# EAGLE library part ME4057 (library SW_BatteryChargers)
1.3A Lithium Ion, 9V Input Voltage Battery Linear Charger
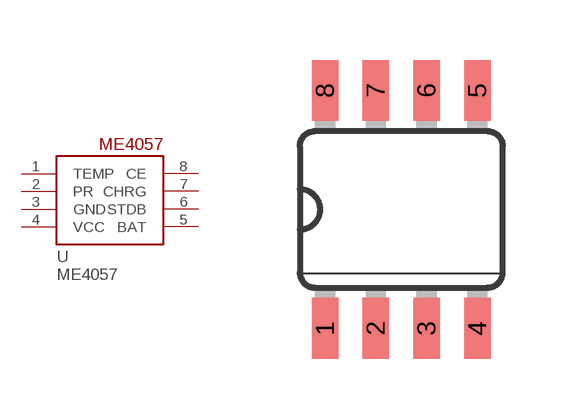
[diagram p3: symbol with the pads of SO08-SKINNYPADS; footprint SO08-SKINNYPADS]

Designator prefix U

## ME4057-SOP8 (CATEGORY: Power; DESCRIPTION: 1.3A Lithium Ion, 9V Input Voltage Battery Linear Charger; MFGS: Microne; MPNS: ME4057; PACKAGE: SOIC-8; PART_NUMBER: ME4057; SW_PART_NUMBER: SW0000842)  [SO08-SKINNYPADS]
1  TEMP  oc
2  PR  in
3  GND  pwr
4  VCC  pwr
5  BAT  out
6  STDB  out
7  CHRG  out
8  CE  in

## Footprint SO08-SKINNYPADS (pad centres in mm)
smd 0.66 x 1.524: 1 -1.905,-2.973; 2 -0.635,-2.973; 3 0.635,-2.973; 4 1.905,-2.973; 5 1.905,2.973; 6 0.635,2.973; 7 -0.635,2.973; 8 -1.905,2.973